# Altium footprint library CF.PcbLib: 2 footprints
Each footprint in its own frame and in the unit in brackets; x right, y up, seen from the top. Pads: shape width x height; smd on the part's side, far side on the other; paste and mask are expansions set on the pad; w line width, h text height; cw(c..) or ccw(c..) is an arc to the next point about the centre after c.
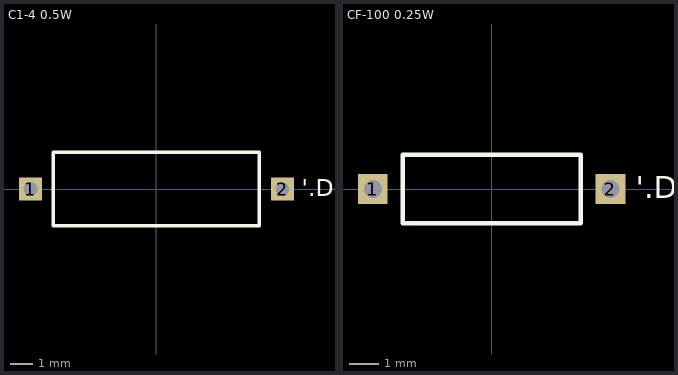
[diagram p0: the footprints below, top view; thin cyan lines are the x and y axes]

## C1-4 0.5W [mm]
pads (2):
  rect 1x1 hole 0.6: 1(-5.5,0) 2(5.5,0)
Top Overlay:
  lines w0.15: -4.5,-1.6 -4.5,1.6 4.5,1.6 4.5,-1.6 -4.5,-1.6
  text "'.Designator'" at 6.35,-0.312 h0.75

## CF-100 0.25W [mm]
pads (2):
  rect 1x1 hole 0.6: 1(-4,0) 2(4,0)
Top Overlay:
  lines w0.15: -3,-1.15 -3,1.15 3,1.15 3,-1.15 -3,-1.15
  text "'.Designator'" at 4.85,-0.312 h0.75